# Altium schematic symbol library CAPACITOR.SchLib: 1 symbol
Pins are listed as number, name and electrical type; pins without a type are passive.

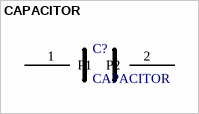
[diagram p0: symbol CAPACITOR]

## CAPACITOR
designator C?
Basic capacitor symbol
pins: 1 P1, 2 P2